# Altium footprint library Leaded Chip Carrier (Square) - Centre Index.PcbLib: 48 footprints (part 1 of 3)
Each footprint in its own frame and in the unit in brackets; x right, y up, seen from the top. Pads: shape width x height; smd on the part's side, far side on the other; paste and mask are expansions set on the pad; w line width, h text height; cw(c..) or ccw(c..) is an arc to the next point about the centre after c.
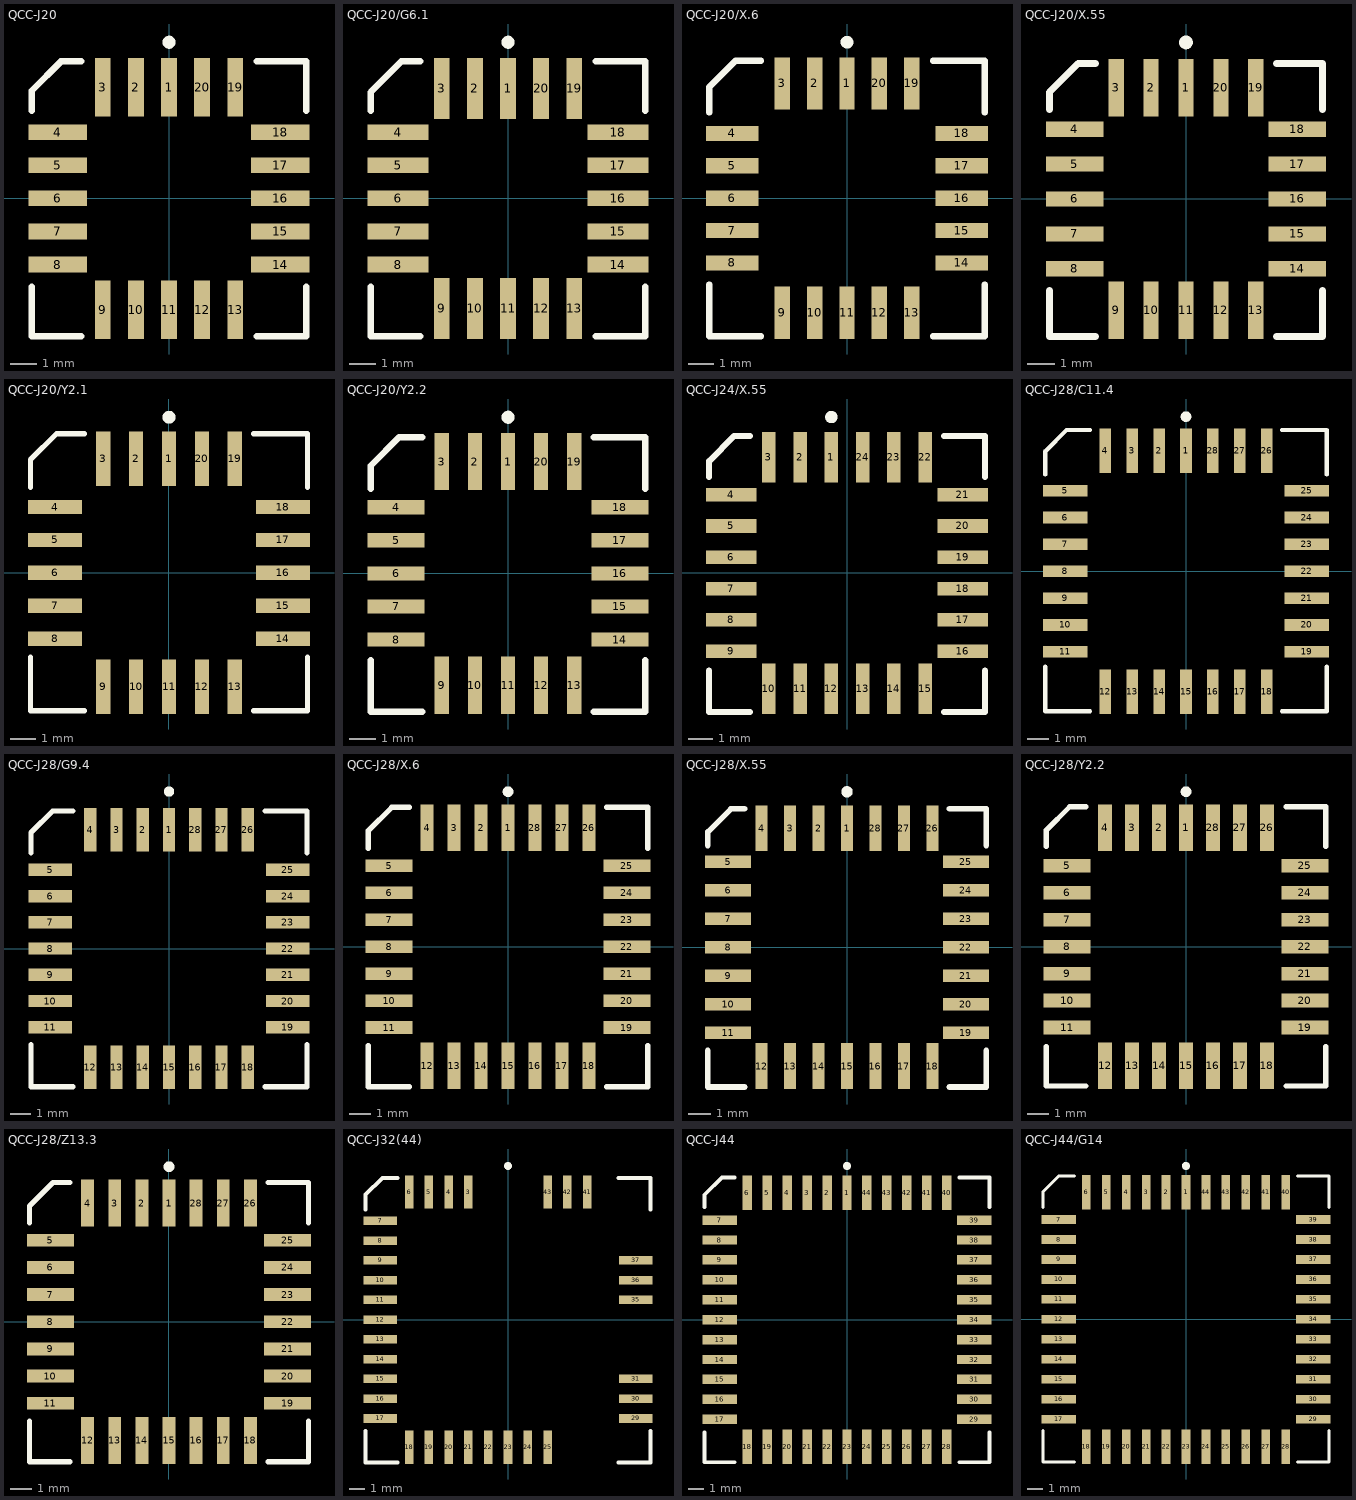
[diagram p0: the footprints below, top view; thin cyan lines are the x and y axes]

## QCC-J20 [mm] "Leaded Chip Carrier; 20 Leads; Body 9 x 9 mm"
height 4.57
pads (20):
  rect 0.6x2.25 smd: 1(0,4.275) 2(-1.27,4.275) 3(-2.54,4.275) 9(-2.54,-4.275) 10(-1.27,-4.275) 11(0,-4.275) 12(1.27,-4.275) 13(2.54,-4.275) 19(2.54,4.275) 20(1.27,4.275)
  rect 2.25x0.6 smd: 4(-4.275,2.54) 5(-4.275,1.27) 6(-4.275,0) 7(-4.275,-1.27) 8(-4.275,-2.54) 14(4.275,-2.54) 15(4.275,-1.27) 16(4.275,0) 17(4.275,1.27) 18(4.275,2.54)
Top Overlay:
  circle w0.25: c0,6 r0.125
  lines w0.25: -5.275,-3.387 -5.275,-5.287 -3.375,-5.287 ; -5.275,3.363 -5.275,4.138 -4.15,5.262 -3.375,5.262 ; 3.375,-5.287 5.275,-5.287 5.275,-3.387 ; 3.375,5.262 5.275,5.262 5.275,3.363

## QCC-J20/G6.1 [mm] "Leaded Chip Carrier; 20 Leads; Body 9 x 9 mm"
height 4.57
pads (20):
  rect 0.6x2.35 smd: 1(0,4.225) 2(-1.27,4.225) 3(-2.54,4.225) 9(-2.54,-4.225) 10(-1.27,-4.225) 11(0,-4.225) 12(1.27,-4.225) 13(2.54,-4.225) 19(2.54,4.225) 20(1.27,4.225)
  rect 2.35x0.6 smd: 4(-4.225,2.54) 5(-4.225,1.27) 6(-4.225,0) 7(-4.225,-1.27) 8(-4.225,-2.54) 14(4.225,-2.54) 15(4.225,-1.27) 16(4.225,0) 17(4.225,1.27) 18(4.225,2.54)
Top Overlay:
  circle w0.25: c0,6 r0.125
  lines w0.25: -5.275,-3.388 -5.275,-5.288 -3.375,-5.288 ; -5.275,3.362 -5.275,4.088 -4.1,5.262 -3.375,5.262 ; 3.375,-5.288 5.275,-5.288 5.275,-3.388 ; 3.375,5.262 5.275,5.262 5.275,3.362

## QCC-J20/X.6 [mm] "Leaded Chip Carrier; 20 Leads; Body 9 x 9 mm"
height 4.5
pads (20):
  rect 0.6x2.05 smd: 1(0,4.5) 2(-1.27,4.5) 3(-2.54,4.5) 9(-2.54,-4.5) 10(-1.27,-4.5) 11(0,-4.5) 12(1.27,-4.5) 13(2.54,-4.5) 19(2.54,4.5) 20(1.27,4.5)
  rect 2.05x0.6 smd: 4(-4.5,2.54) 5(-4.5,1.27) 6(-4.5,0) 7(-4.5,-1.27) 8(-4.5,-2.54) 14(4.5,-2.54) 15(4.5,-1.27) 16(4.5,0) 17(4.5,1.27) 18(4.5,2.54)
Top Overlay:
  circle w0.25: c0,6.12 r0.125
  lines w0.25: -5.4,-3.387 -5.4,-5.412 -3.375,-5.412 ; -5.4,3.363 -5.4,4.363 -4.375,5.388 -3.375,5.388 ; 3.375,-5.412 5.4,-5.412 5.4,-3.387 ; 3.375,5.388 5.4,5.388 5.4,3.363

## QCC-J20/X.55 [mm]
pads (20):
  rect 0.55x2.1 smd: 1(0,4.05) 2(-1.27,4.05) 3(-2.54,4.05) 9(-2.54,-4.05) 10(-1.27,-4.05) 11(0,-4.05) 12(1.27,-4.05) 13(2.54,-4.05) 19(2.54,4.05) 20(1.27,4.05)
  rect 2.1x0.55 smd: 4(-4.05,2.54) 5(-4.05,1.27) 6(-4.05,0) 7(-4.05,-1.27) 8(-4.05,-2.54) 14(4.05,-2.54) 15(4.05,-1.27) 16(4.05,0) 17(4.05,1.27) 18(4.05,2.54)
Top Overlay:
  circle w0.25: c0,5.7 r0.125
  lines w0.25: -4.975,-3.337 -4.975,-5.012 -3.3,-5.012 ; -4.975,3.263 -4.975,3.887 -3.925,4.938 -3.3,4.938 ; 3.3,-5.012 4.975,-5.012 4.975,-3.337 ; 3.3,4.938 4.975,4.938 4.975,3.263

## QCC-J20/Y2.1 [mm] "Leaded Chip Carrier; 20 Leads; Body 9 x 9 mm"
height 4.57
pads (20):
  rect 0.55x2.1 smd: 1(0,4.4) 2(-1.27,4.4) 3(-2.54,4.4) 9(-2.54,-4.4) 10(-1.27,-4.4) 11(0,-4.4) 12(1.27,-4.4) 13(2.54,-4.4) 19(2.54,4.4) 20(1.27,4.4)
  rect 2.1x0.55 smd: 4(-4.4,2.54) 5(-4.4,1.27) 6(-4.4,0) 7(-4.4,-1.27) 8(-4.4,-2.54) 14(4.4,-2.54) 15(4.4,-1.27) 16(4.4,0) 17(4.4,1.27) 18(4.4,2.54)
Top Overlay:
  circle w0.25: c0,6.01 r0.125
  lines w0.2: -5.35,-3.25 -5.35,-5.325 -3.275,-5.325 ; -5.35,3.3 -5.35,4.375 -4.35,5.375 -3.275,5.375 ; 3.275,-5.325 5.35,-5.325 5.35,-3.25 ; 3.275,5.375 5.35,5.375 5.35,3.3

## QCC-J20/Y2.2 [mm] "Leaded Chip Carrier; 20 Leads; Body 9 x 9 mm"
height 4.57
pads (20):
  rect 0.55x2.2 smd: 1(0,4.3) 2(-1.27,4.3) 3(-2.54,4.3) 9(-2.54,-4.3) 10(-1.27,-4.3) 11(0,-4.3) 12(1.27,-4.3) 13(2.54,-4.3) 19(2.54,4.3) 20(1.27,4.3)
  rect 2.2x0.55 smd: 4(-4.3,2.54) 5(-4.3,1.27) 6(-4.3,0) 7(-4.3,-1.27) 8(-4.3,-2.54) 14(4.3,-2.54) 15(4.3,-1.27) 16(4.3,0) 17(4.3,1.27) 18(4.3,2.54)
Top Overlay:
  circle w0.25: c0,6 r0.125
  lines w0.25: -5.275,-3.337 -5.275,-5.312 -3.3,-5.312 ; -5.275,3.263 -5.275,4.137 -4.175,5.237 -3.3,5.237 ; 3.3,-5.312 5.275,-5.312 5.275,-3.337 ; 3.3,5.237 5.275,5.237 5.275,3.263

## QCC-J24/X.55 [mm]
pads (24):
  rect 0.55x2.05 smd: 1(-0.635,4.7) 2(-1.905,4.7) 3(-3.175,4.7) 10(-3.175,-4.7) 11(-1.905,-4.7) 12(-0.635,-4.7) 13(0.635,-4.7) 14(1.905,-4.7) 15(3.175,-4.7) 22(3.175,4.7) 23(1.905,4.7) 24(0.635,4.7)
  rect 2.05x0.55 smd: 4(-4.7,3.175) 5(-4.7,1.905) 6(-4.7,0.635) 7(-4.7,-0.635) 8(-4.7,-1.905) 9(-4.7,-3.175) 16(4.7,-3.175) 17(4.7,-1.905) 18(4.7,-0.635) 19(4.7,0.635) 20(4.7,1.905) 21(4.7,3.175)
Top Overlay:
  circle w0.25: c-0.635,6.325 r0.125
  lines w0.25: -5.6,-3.972 -5.6,-5.637 -3.935,-5.637 ; -5.6,3.898 -5.6,4.537 -4.575,5.563 -3.935,5.563 ; 3.935,-5.637 5.6,-5.637 5.6,-3.972 ; 3.935,5.563 5.6,5.563 5.6,3.898

## QCC-J28/C11.4 [mm] "Leaded Chip Carrier; 28 Leads; Body 11.5 x 11.5 mm"
height 4.57
pads (28):
  rect 0.55x2.1 smd: 1(0,5.7) 2(-1.27,5.7) 3(-2.54,5.7) 4(-3.81,5.7) 12(-3.81,-5.7) 13(-2.54,-5.7) 14(-1.27,-5.7) 15(0,-5.7) 16(1.27,-5.7) 17(2.54,-5.7) 18(3.81,-5.7) 26(3.81,5.7) 27(2.54,5.7) 28(1.27,5.7)
  rect 2.1x0.55 smd: 5(-5.7,3.81) 6(-5.7,2.54) 7(-5.7,1.27) 8(-5.7,0) 9(-5.7,-1.27) 10(-5.7,-2.54) 11(-5.7,-3.81) 19(5.7,-3.81) 20(5.7,-2.54) 21(5.7,-1.27) 22(5.7,0) 23(5.7,1.27) 24(5.7,2.54) 25(5.7,3.81)
Top Overlay:
  circle w0.25: c0,7.31 r0.125
  lines w0.2: -6.65,-4.52 -6.65,-6.625 -4.545,-6.625 ; -6.65,4.57 -6.65,5.675 -5.65,6.675 -4.545,6.675 ; 4.545,-6.625 6.65,-6.625 6.65,-4.52 ; 4.545,6.675 6.65,6.675 6.65,4.57

## QCC-J28/G9.4 [mm] "Leaded Chip Carrier; 28 Leads; Body 11.5 x 11.5 mm"
height 4.58
pads (28):
  rect 0.6x2.1 smd: 1(0,5.75) 2(-1.27,5.75) 3(-2.54,5.75) 4(-3.81,5.75) 12(-3.81,-5.75) 13(-2.54,-5.75) 14(-1.27,-5.75) 15(0,-5.75) 16(1.27,-5.75) 17(2.54,-5.75) 18(3.81,-5.75) 26(3.81,5.75) 27(2.54,5.75) 28(1.27,5.75)
  rect 2.1x0.6 smd: 5(-5.75,3.81) 6(-5.75,2.54) 7(-5.75,1.27) 8(-5.75,0) 9(-5.75,-1.27) 10(-5.75,-2.54) 11(-5.75,-3.81) 19(5.75,-3.81) 20(5.75,-2.54) 21(5.75,-1.27) 22(5.75,0) 23(5.75,1.27) 24(5.75,2.54) 25(5.75,3.81)
Top Overlay:
  circle w0.25: c0,7.6 r0.125
  lines w0.25: -6.675,-4.657 -6.675,-6.687 -4.645,-6.687 ; -6.675,4.633 -6.675,5.613 -5.625,6.662 -4.645,6.662 ; 4.645,-6.687 6.675,-6.687 6.675,-4.657 ; 4.645,6.662 6.675,6.662 6.675,4.633

## QCC-J28/X.6 [mm] "Leaded Chip Carrier; 28 Leads; Body 11.5 x 11.5 mm"
height 4.57
pads (28):
  rect 0.6x2.2 smd: 1(0,5.6) 2(-1.27,5.6) 3(-2.54,5.6) 4(-3.81,5.6) 12(-3.81,-5.6) 13(-2.54,-5.6) 14(-1.27,-5.6) 15(0,-5.6) 16(1.27,-5.6) 17(2.54,-5.6) 18(3.81,-5.6) 26(3.81,5.6) 27(2.54,5.6) 28(1.27,5.6)
  rect 2.2x0.6 smd: 5(-5.6,3.81) 6(-5.6,2.54) 7(-5.6,1.27) 8(-5.6,0) 9(-5.6,-1.27) 10(-5.6,-2.54) 11(-5.6,-3.81) 19(5.6,-3.81) 20(5.6,-2.54) 21(5.6,-1.27) 22(5.6,0) 23(5.6,1.27) 24(5.6,2.54) 25(5.6,3.81)
Top Overlay:
  circle w0.25: c0,7.3 r0.125
  lines w0.25: -6.575,-4.658 -6.575,-6.588 -4.645,-6.588 ; -6.575,4.632 -6.575,5.463 -5.475,6.563 -4.645,6.563 ; 4.645,-6.588 6.575,-6.588 6.575,-4.658 ; 4.645,6.563 6.575,6.563 6.575,4.632

## QCC-J28/X.55 [mm]
pads (28):
  rect 0.55x2.05 smd: 1(0,5.3) 2(-1.27,5.3) 3(-2.54,5.3) 4(-3.81,5.3) 12(-3.81,-5.3) 13(-2.54,-5.3) 14(-1.27,-5.3) 15(0,-5.3) 16(1.27,-5.3) 17(2.54,-5.3) 18(3.81,-5.3) 26(3.81,5.3) 27(2.54,5.3) 28(1.27,5.3)
  rect 2.05x0.55 smd: 5(-5.3,3.81) 6(-5.3,2.54) 7(-5.3,1.27) 8(-5.3,0) 9(-5.3,-1.27) 10(-5.3,-2.54) 11(-5.3,-3.81) 19(5.3,-3.81) 20(5.3,-2.54) 21(5.3,-1.27) 22(5.3,0) 23(5.3,1.27) 24(5.3,2.54) 25(5.3,3.81)
Top Overlay:
  circle w0.25: c0,6.925 r0.125
  lines w0.25: -6.2,-4.607 -6.2,-6.237 -4.57,-6.237 ; -6.2,4.533 -6.2,5.137 -5.175,6.163 -4.57,6.163 ; 4.57,-6.237 6.2,-6.237 6.2,-4.607 ; 4.57,6.163 6.2,6.163 6.2,4.533

## QCC-J28/Y2.2 [mm] "28-Pin Ceramic J-Lead Chip Carrier (JLCC)"
height 4.58
pads (28):
  rect 0.65x2.2 smd: 1(0,5.6) 2(-1.27,5.6) 3(-2.54,5.6) 4(-3.81,5.6) 12(-3.81,-5.6) 13(-2.54,-5.6) 14(-1.27,-5.6) 15(0,-5.6) 16(1.27,-5.6) 17(2.54,-5.6) 18(3.81,-5.6) 26(3.81,5.6) 27(2.54,5.6) 28(1.27,5.6)
  rect 2.2x0.65 smd: 5(-5.6,3.81) 6(-5.6,2.54) 7(-5.6,1.27) 8(-5.6,0) 9(-5.6,-1.27) 10(-5.6,-2.54) 11(-5.6,-3.81) 19(5.6,-3.81) 20(5.6,-2.54) 21(5.6,-1.27) 22(5.6,0) 23(5.6,1.27) 24(5.6,2.54) 25(5.6,3.81)
Top Overlay:
  circle w0.25: c0,7.3 r0.125
  lines w0.25: -6.575,-4.707 -6.575,-6.563 -4.72,-6.563 ; -6.575,4.732 -6.575,5.488 -5.475,6.588 -4.72,6.588 ; 4.72,-6.563 6.575,-6.563 6.575,-4.707 ; 4.72,6.588 6.575,6.588 6.575,4.732

## QCC-J28/Z13.3 [mm] "Leaded Chip Carrier; 28 Leads; Body 11.5 x 11.5 mm"
height 4.57
pads (28):
  rect 0.6x2.2 smd: 1(0,5.55) 2(-1.27,5.55) 3(-2.54,5.55) 4(-3.81,5.55) 12(-3.81,-5.55) 13(-2.54,-5.55) 14(-1.27,-5.55) 15(0,-5.55) 16(1.27,-5.55) 17(2.54,-5.55) 18(3.81,-5.55) 26(3.81,5.55) 27(2.54,5.55) 28(1.27,5.55)
  rect 2.2x0.6 smd: 5(-5.55,3.81) 6(-5.55,2.54) 7(-5.55,1.27) 8(-5.55,0) 9(-5.55,-1.27) 10(-5.55,-2.54) 11(-5.55,-3.81) 19(5.55,-3.81) 20(5.55,-2.54) 21(5.55,-1.27) 22(5.55,0) 23(5.55,1.27) 24(5.55,2.54) 25(5.55,3.81)
Top Overlay:
  circle w0.25: c0,7.25 r0.125
  lines w0.25: -6.525,-4.657 -6.525,-6.537 -4.645,-6.537 ; -6.525,4.633 -6.525,5.413 -5.425,6.513 -4.645,6.513 ; 4.645,-6.537 6.525,-6.537 6.525,-4.657 ; 4.645,6.513 6.525,6.513 6.525,4.633

## QCC-J32(44) [mm] "Leaded Chip Carrier; 44 Leads; Body 16.5 x 16.5 mm"
height 4.57
pads (32):
  rect 0.55x2.15 smd: 3(-2.54,8.2) 4(-3.81,8.2) 5(-5.08,8.2) 6(-6.35,8.2) 18(-6.35,-8.2) 19(-5.08,-8.2) 20(-3.81,-8.2) 21(-2.54,-8.2) 22(-1.27,-8.2) 23(0,-8.2) 24(1.27,-8.2) 25(2.54,-8.2) 41(5.08,8.2) 42(3.81,8.2) 43(2.54,8.2)
  rect 2.15x0.55 smd: 7(-8.2,6.35) 8(-8.2,5.08) 9(-8.2,3.81) 10(-8.2,2.54) 11(-8.2,1.27) 12(-8.2,0) 13(-8.2,-1.27) 14(-8.2,-2.54) 15(-8.2,-3.81) 16(-8.2,-5.08) 17(-8.2,-6.35) 29(8.2,-6.35) 30(8.2,-5.08) 31(8.2,-3.81) 35(8.2,1.27) 36(8.2,2.54) 37(8.2,3.81)
Top Overlay:
  circle w0.25: c0,9.875 r0.125
  lines w0.25: -9.15,-7.147 -9.15,-9.187 -7.11,-9.187 ; -9.15,7.073 -9.15,8.038 -8.075,9.113 -7.11,9.113 ; 7.11,-9.187 9.15,-9.187 9.15,-7.147 ; 7.11,9.113 9.15,9.113 9.15,7.073

## QCC-J44 [mm] "44-Pin Plastic Leaded Chip Carrier (PLCC)"
height 4.58
pads (44):
  rect 0.6x2.2 smd: 1(0,8.1) 2(-1.27,8.1) 3(-2.54,8.1) 4(-3.81,8.1) 5(-5.08,8.1) 6(-6.35,8.1) 18(-6.35,-8.1) 19(-5.08,-8.1) 20(-3.81,-8.1) 21(-2.54,-8.1) 22(-1.27,-8.1) 23(0,-8.1) 24(1.27,-8.1) 25(2.54,-8.1) 26(3.81,-8.1) 27(5.08,-8.1) 28(6.35,-8.1) 40(6.35,8.1) 41(5.08,8.1) 42(3.81,8.1) 43(2.54,8.1) 44(1.27,8.1)
  rect 2.2x0.6 smd: 7(-8.1,6.35) 8(-8.1,5.08) 9(-8.1,3.81) 10(-8.1,2.54) 11(-8.1,1.27) 12(-8.1,0) 13(-8.1,-1.27) 14(-8.1,-2.54) 15(-8.1,-3.81) 16(-8.1,-5.08) 17(-8.1,-6.35) 29(8.1,-6.35) 30(8.1,-5.08) 31(8.1,-3.81) 32(8.1,-2.54) 33(8.1,-1.27) 34(8.1,0) 35(8.1,1.27) 36(8.1,2.54) 37(8.1,3.81) 38(8.1,5.08) 39(8.1,6.35)
Top Overlay:
  circle w0.25: c0,9.8 r0.125
  lines w0.25: -9.075,-7.198 -9.075,-9.087 -7.185,-9.087 ; -9.075,7.172 -9.075,7.963 -7.975,9.063 -7.185,9.063 ; 7.185,-9.087 9.075,-9.087 9.075,-7.198 ; 7.185,9.063 9.075,9.063 9.075,7.172

## QCC-J44/G14 [mm] "Leaded Chip Carrier, Plastic; 44 Leads; Body 16.6 x 16.6 mm"
height 4.57
pads (44):
  rect 0.55x2.2 smd: 1(0,8.1) 2(-1.27,8.1) 3(-2.54,8.1) 4(-3.81,8.1) 5(-5.08,8.1) 6(-6.35,8.1) 18(-6.35,-8.1) 19(-5.08,-8.1) 20(-3.81,-8.1) 21(-2.54,-8.1) 22(-1.27,-8.1) 23(0,-8.1) 24(1.27,-8.1) 25(2.54,-8.1) 26(3.81,-8.1) 27(5.08,-8.1) 28(6.35,-8.1) 40(6.35,8.1) 41(5.08,8.1) 42(3.81,8.1) 43(2.54,8.1) 44(1.27,8.1)
  rect 2.2x0.55 smd: 7(-8.1,6.35) 8(-8.1,5.08) 9(-8.1,3.81) 10(-8.1,2.54) 11(-8.1,1.27) 12(-8.1,0) 13(-8.1,-1.27) 14(-8.1,-2.54) 15(-8.1,-3.81) 16(-8.1,-5.08) 17(-8.1,-6.35) 29(8.1,-6.35) 30(8.1,-5.08) 31(8.1,-3.81) 32(8.1,-2.54) 33(8.1,-1.27) 34(8.1,0) 35(8.1,1.27) 36(8.1,2.54) 37(8.1,3.81) 38(8.1,5.08) 39(8.1,6.35)
Top Overlay:
  circle w0.25: c0,9.76 r0.125
  lines w0.2: -9.1,-7.06 -9.1,-9.075 -7.085,-9.075 ; -9.1,7.11 -9.1,8.125 -8.1,9.125 -7.085,9.125 ; 7.085,-9.075 9.1,-9.075 9.1,-7.06 ; 7.085,9.125 9.1,9.125 9.1,7.11